# EAGLE library part TDA7439 (library st-microelectronics)
The TDA7439 is a volume, tone (bass, mid-range and treble) and balance (left/right) processor for high-quality audio applications in car-radio and Hi-Fi systems. Selectable input gain is provided. All the functions are controlled by serial bus. The AC signal setting is obtained by resistor networks and switches combined with operational amplifiers. The TDA7439 employs BIPOLAR/CMOS technology to provide low distortion, low noise and DC stepping.
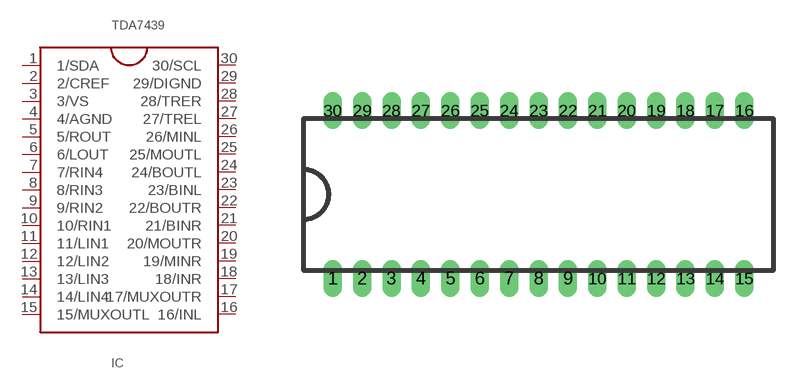
[diagram p50: symbol with the pads of SDIP30; footprint SDIP30]

Designator prefix IC

## TDA7439  [SDIP30]
1  1/SDA
2  2/CREF
3  3/VS  pwr
4  4/AGND  pwr
5  5/ROUT  out
6  6/LOUT  out
7  7/RIN4  in
8  8/RIN3  in
9  9/RIN2  in
10  10/RIN1  in
11  11/LIN1  in
12  12/LIN2  in
13  13/LIN3  in
14  14/LIN4  in
15  15/MUXOUTL  out
16  16/INL  in
17  17/MUXOUTR  out
18  18/INR  in
19  19/MINR  in
20  20/MOUTR  out
21  21/BINR  in
22  22/BOUTR  out
23  23/BINL  in
24  24/BOUTL  out
25  25/MOUTL  out
26  26/MINL  in
27  27/TREL
28  28/TRER
29  29/DIGND  pwr
30  30/SCL

## Footprint SDIP30 (pad centres in mm)
drill 0.6 long: 1 -12.446,-5.08; 2 -10.668,-5.08; 3 -8.89,-5.08; 4 -7.112,-5.08; 5 -5.334,-5.08; 6 -3.556,-5.08; 7 -1.778,-5.08; 8 0,-5.08; 9 1.778,-5.08; 10 3.556,-5.08; 11 5.334,-5.08; 12 7.112,-5.08; 13 8.89,-5.08; 14 10.668,-5.08; 15 12.446,-5.08; 16 12.446,5.08; 17 10.668,5.08; 18 8.89,5.08; 19 7.112,5.08; 20 5.334,5.08; 21 3.556,5.08; 22 1.778,5.08; 23 0,5.08; 24 -1.778,5.08; 25 -3.556,5.08; 26 -5.334,5.08; 27 -7.112,5.08; 28 -8.89,5.08; 29 -10.668,5.08; 30 -12.446,5.08